# EAGLE library part FÜR_TAOGLAS-ANTENNE (library ++Distributed)
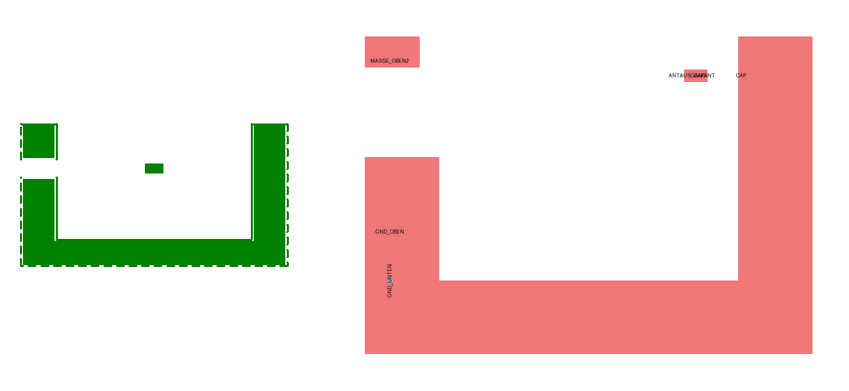
[diagram p1: symbol with the pads of FÜR_TAOGLAS-ANTENNE; footprint FÜR_TAOGLAS-ANTENNE]

Designator prefix H

## FÜR_TAOGLAS-ANTENNE  [FÜR_TAOGLAS-ANTENNE]
ANTAUSGANG  ANTAUSGANG
CAP  CAP
CAPANT  CAPANT
GND_OBEN  GNDOBEN
GND_UNTEN  GNDUNTEN
MASSE_OBEN2  GNDOBEN2

## Footprint FÜR_TAOGLAS-ANTENNE (pad centres in mm)
smd 0.2 x 0.2: ANTAUSGANG 10.2,-1.6; CAP 12.4,-1.6; CAPANT 10.9,-1.6; GND_OBEN -2,-8; MASSE_OBEN2 -2,-1
smd 0.2 x 0.2 bottom: GND_UNTEN -2,-10